# Altium integrated library mems.IntLib: 1 symbol
Pins are listed as number, name and electrical type; pins without a type are passive.

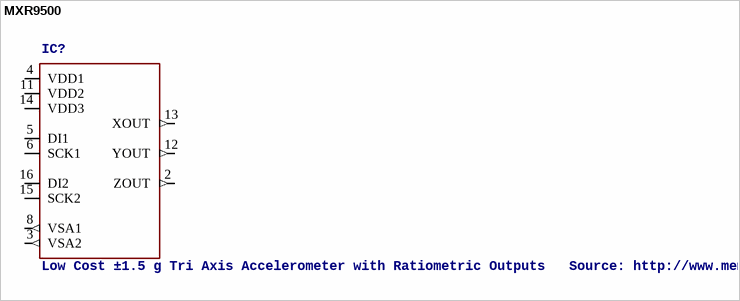
[diagram p0: symbol MXR9500]

## MXR9500
designator IC?, comment Low Cost ±1.5 g Tri Axis Accelerometer with Ratiometric Outputs   Source: http://www.memsic.com/data/products/MXR9500G&M/MXR9500G&M.pdf
footprint LCC16
pins: 2 ZOUT (out), 3 VSA2 (out), 4 VDD1, 5 DI1, 6 SCK1, 8 VSA1 (out), 11 VDD2, 12 YOUT (out), 13 XOUT (out), 14 VDD3, 15 SCK2, 16 DI2